# Altium footprint library TFM-53A.PcbLib: 1 footprints
Each footprint in its own frame and in the unit in brackets; x right, y up, seen from the top. Pads: shape width x height; smd on the part's side, far side on the other; paste and mask are expansions set on the pad; w line width, h text height; cw(c..) or ccw(c..) is an arc to the next point about the centre after c.
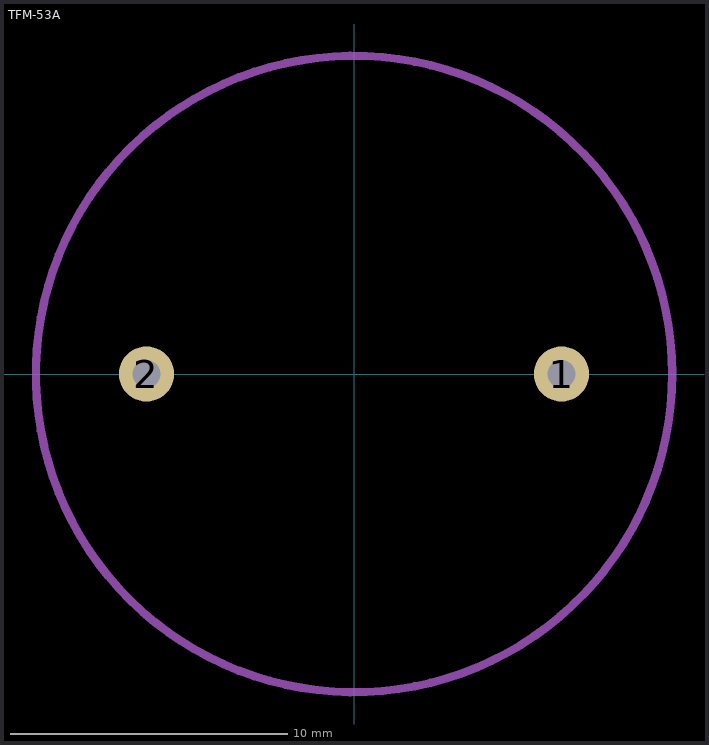
[diagram p0: the footprint, top view; thin cyan lines are the x and y axes]

## TFM-53A [mm]
pads (2):
  round 2 hole 1: 1(7.5,0) 2(-7.5,0)
Mechanical 13:
  circle w0.3: c0,0 r11.5
  text ".Designator" at -2.921,-0.254 h1.5
3D body: height 8.2, standoff 0, extent -11.51,-11.51 11.51,11.51